# Altium footprint library PcbLib1.PcbLib: 1 footprints
Each footprint in its own frame and in the unit in brackets; x right, y up, seen from the top. Pads: shape width x height; smd on the part's side, far side on the other; paste and mask are expansions set on the pad; w line width, h text height; cw(c..) or ccw(c..) is an arc to the next point about the centre after c.
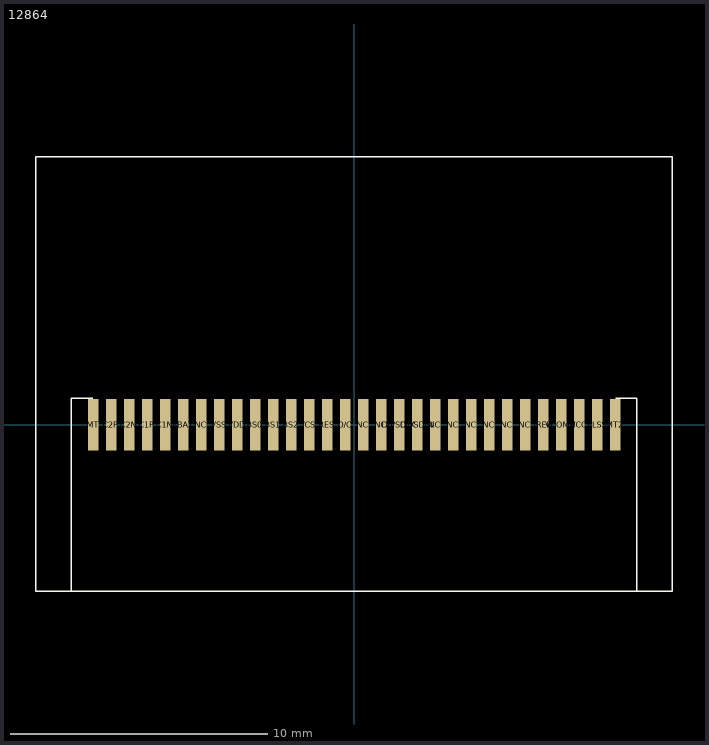
[diagram p0: the footprint, top view; thin cyan lines are the x and y axes]

## 12864 [mm] "OLED12864"
pads (30):
  rect 0.4x2 smd: /CS(-1.75,0) BS0(-3.85,0) BS1(-3.15,0) BS2(-2.45,0) C1N(-7.35,0) C1P(-8.05,0) C2N(-8.75,0) C2P(-9.45,0) D0/SCLK(1.75,0) D1/SDIN(2.45,0) D/C(-0.35,0) IREF(7.35,0) MT(-10.15,0) MT2(10.15,0) NC(-5.95,0) NC(0.35,0) NC(1.05,0) NC(3.15,0) NC(3.85,0) NC(4.55,0) NC(5.25,0) NC(5.95,0) NC(6.65,0) RES(-1.05,0) VBAT(-6.65,0) VCC(8.75,0) VCOMH(8.05,0) VDD(-4.55,0) VLSS(9.45,0) VSS(-5.25,0)
Top Overlay:
  lines w0.051: -11.01,-6.484 -11.01,1.016 -10.16,1.016 ; 10.16,1.016 10.99,1.016 10.99,-6.484 ; -12.38,-6.484 -12.38,10.416 12.36,10.416 12.36,-6.484 -12.38,-6.484